# EAGLE library part SN74LVC2G132DCUR (library Birdhouse)
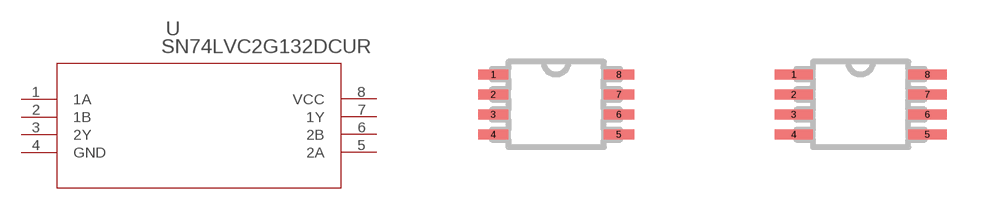
[diagram p12: symbol with the pads of DCU8; footprints DCU8, DCU8-M]

Designator prefix U

## SN74LVC2G132DCUR (COPYRIGHT: Copyright (C) 2023 Ultra Librarian. All rights reserved.; DIGI-KEY_PART_NUMBER_1: 296-18802-1-ND; DIGI-KEY_PART_NUMBER_2: 296-18802-2-ND; DIGI-KEY_PART_NUMBER_3: 296-18802-6-ND; DIGI-KEY_PART_NUMBER_4: 2156-SN74LVC2G132DCUR-ND; MANUFACTURER_PART_NUMBER: SN74LVC2G132DCUR; MFR_NAME: Texas Instruments)  [DCU8]
1  1A  in
2  1B  in
3  2Y  out
4  GND  pwr
5  2A  in
6  2B  in
7  1Y  out
8  VCC  pwr

## SN74LVC2G132DCURDCU8-M (COPYRIGHT: Copyright (C) 2023 Ultra Librarian. All rights reserved.; DIGI-KEY_PART_NUMBER_1: 296-18802-1-ND; DIGI-KEY_PART_NUMBER_2: 296-18802-2-ND; DIGI-KEY_PART_NUMBER_3: 296-18802-6-ND; DIGI-KEY_PART_NUMBER_4: 2156-SN74LVC2G132DCUR-ND; MANUFACTURER_PART_NUMBER: SN74LVC2G132DCUR; MFR_NAME: Texas Instruments)  [DCU8-M]
Pads as for DCU8

## SN74LVC2G132DCURDCU8-L (COPYRIGHT: Copyright (C) 2023 Ultra Librarian. All rights reserved.; DIGI-KEY_PART_NUMBER_1: 296-18802-1-ND; DIGI-KEY_PART_NUMBER_2: 296-18802-2-ND; DIGI-KEY_PART_NUMBER_3: 296-18802-6-ND; DIGI-KEY_PART_NUMBER_4: 2156-SN74LVC2G132DCUR-ND; MANUFACTURER_PART_NUMBER: SN74LVC2G132DCUR; MFR_NAME: Texas Instruments)  [DCU8-L]
Pads as for DCU8

## Footprint DCU8 (pad centres in mm)
smd 0.756 x 0.254: 1 -1.572,0.75; 2 -1.572,0.25; 3 -1.572,-0.25; 4 -1.572,-0.75; 5 1.572,-0.75; 6 1.572,-0.25; 7 1.572,0.25; 8 1.572,0.75

## Footprint DCU8-M (pad centres in mm)
smd 0.956 x 0.254: 1 -1.672,0.75; 2 -1.672,0.25; 3 -1.672,-0.25; 4 -1.672,-0.75; 5 1.672,-0.75; 6 1.672,-0.25; 7 1.672,0.25; 8 1.672,0.75

## Footprint DCU8-L (pad centres in mm)
smd 0.556 x 0.204: 1 -1.472,0.75; 2 -1.472,0.25; 3 -1.472,-0.25; 4 -1.472,-0.75; 5 1.472,-0.75; 6 1.472,-0.25; 7 1.472,0.25; 8 1.472,0.75